# EAGLE library part SC39-11SRWA (library display-hp)
SINGLE DIGIT NUMERIC DISPLAY 9.9mm (0.39INCH) Source: SC39-11SRWA.pdf
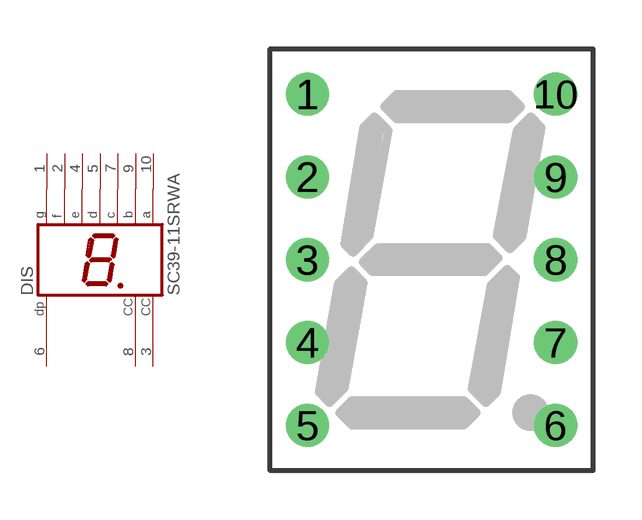
[diagram p23: symbol with the pads of HDSP-E; footprint HDSP-E]

Designator prefix DIS

## SC39-11SRWA (OC_FARNELL: unknown; OC_NEWARK: unknown)  [HDSP-E]
1  G  pas
2  F  pas
3  CC  pas
4  E  pas
5  D  pas
6  DP  pas
7  C  pas
8  CC  pas
9  B  pas
10  A  pas

## Footprint HDSP-E (pad centres in mm)
LED DISPLAY 10-mm 1 character 7 segment, decimal point right
drill 0.813: 1 -3.81,5.08; 2 -3.81,2.54; 3 -3.81,0; 4 -3.81,-2.54; 5 -3.81,-5.08; 6 3.81,-5.08; 7 3.81,-2.54; 8 3.81,0; 9 3.81,2.54; 10 3.81,5.08